# Altium footprint library 4119.28-6.PcbLib: 1 footprints
Each footprint in its own frame and in the unit in brackets; x right, y up, seen from the top. Pads: shape width x height; smd on the part's side, far side on the other; paste and mask are expansions set on the pad; w line width, h text height; cw(c..) or ccw(c..) is an arc to the next point about the centre after c.
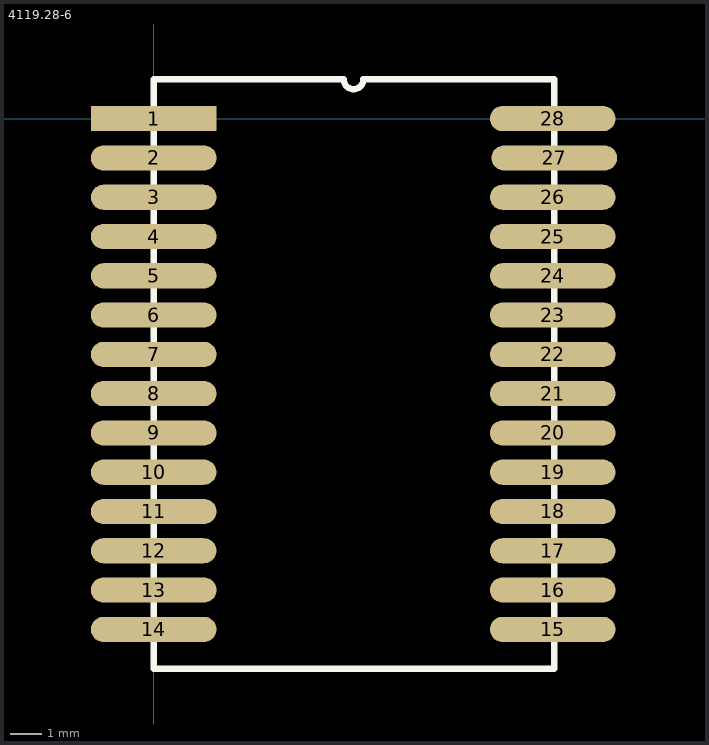
[diagram p0: the footprint, top view; thin cyan lines are the x and y axes]

## 4119.28-6 [mm]
pads (28):
  rect 4x0.8 smd: 1(0,0)
  oval 4x0.8 smd: 2(0,-1.25) 3(0,-2.5) 4(0,-3.75) 5(0,-5) 6(0,-6.25) 7(0,-7.5) 8(0,-8.75) 9(0,-10) 10(0,-11.25) 11(0,-12.5) 12(0,-13.75) 13(0,-15) 14(0,-16.25) 15(12.7,-16.25) 16(12.7,-15) 17(12.7,-13.75) 18(12.7,-12.5) 19(12.7,-11.25) 20(12.7,-10) 21(12.7,-8.75) 22(12.7,-7.5) 23(12.7,-6.25) 24(12.7,-5) 25(12.7,-3.75) 26(12.7,-2.5) 27(12.75,-1.25) 28(12.7,0)
Top Overlay:
  lines w0.2: 6.038,1.25 0,1.25 0,-17.5 12.75,-17.5 12.75,1.25 6.662,1.25 ; 6.05,1.25 ccw(c6.363,1.25) 6.675,1.25